# Altium schematic symbol library CAP1188.Schlib: 1 symbol
Pins are listed as number, name and electrical type; pins without a type are passive.

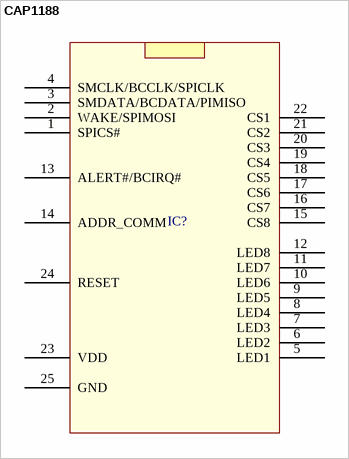
[diagram p0: symbol CAP1188]

## CAP1188
designator IC?
=Desciption
pins: 1 SPICS#, 2 WAKE/SPIMOSI, 3 SMDATA/BCDATA/PIMISO, 4 SMCLK/BCCLK/SPICLK, 5 LED1, 6 LED2, 7 LED3, 8 LED4, 9 LED5, 10 LED6, 11 LED7, 12 LED8, 13 ALERT#/BCIRQ#, 14 ADDR_COMM, 15 CS8, 16 CS7, 17 CS6, 18 CS5, 19 CS4, 20 CS3, 21 CS2, 22 CS1, 23 VDD, 24 RESET, 25 GND